# Altium schematic symbol library MCP3002.SchLib: 1 symbol
Pins are listed as number, name and electrical type; pins without a type are passive.

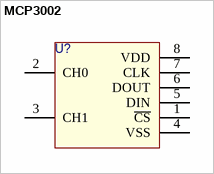
[diagram p0: symbol MCP3002]

## MCP3002
designator U?  (value not drawn)
pins: 1 ~{CS}, 2 CH0, 3 CH1, 4 VSS, 5 DIN, 6 DOUT, 7 CLK, 8 VDD